# EAGLE library part TSX339 (library dawidkulpa_dev)
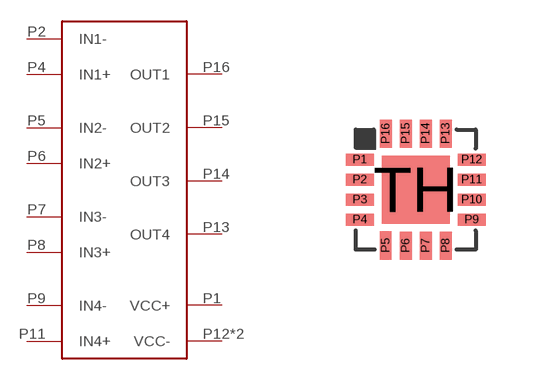
[diagram p26: symbol with the pads of QFN16; footprint QFN16]

Designator prefix -

## TSX339  [QFN16]
P1  VCC+
P2  IN1-
P4  IN1+
P5  IN2-
P6  IN2+
P7  IN3-
P8  IN3+
P9  IN4-
P11  IN4+
P12  VCC-
P13  OUT4
P14  OUT3
P15  OUT2
P16  OUT1
TH  VCC-

## Footprint QFN16 (pad centres in mm)
RTE (S-PQFP-N16) 3x3 mm Source: www.ti.com .. tpa6132a2 direct path stereo $.65.pdf
smd 0.7 x 0.3: P1 -1.4,0.75; P2 -1.4,0.25; P3 -1.4,-0.25; P4 -1.4,-0.75; P9 1.4,-0.75; P10 1.4,-0.25; P11 1.4,0.25; P12 1.4,0.75
smd 0.3 x 0.7: P5 -0.75,-1.4; P6 -0.25,-1.4; P7 0.25,-1.4; P8 0.75,-1.4; P13 0.75,1.4; P14 0.25,1.4; P15 -0.25,1.4; P16 -0.75,1.4
smd 1.7 x 1.7: TH 0,0